# Altium footprint library micro sim-6.PcbLib: 1 footprints
Each footprint in its own frame and in the unit in brackets; x right, y up, seen from the top. Pads: shape width x height; smd on the part's side, far side on the other; paste and mask are expansions set on the pad; w line width, h text height; cw(c..) or ccw(c..) is an arc to the next point about the centre after c.
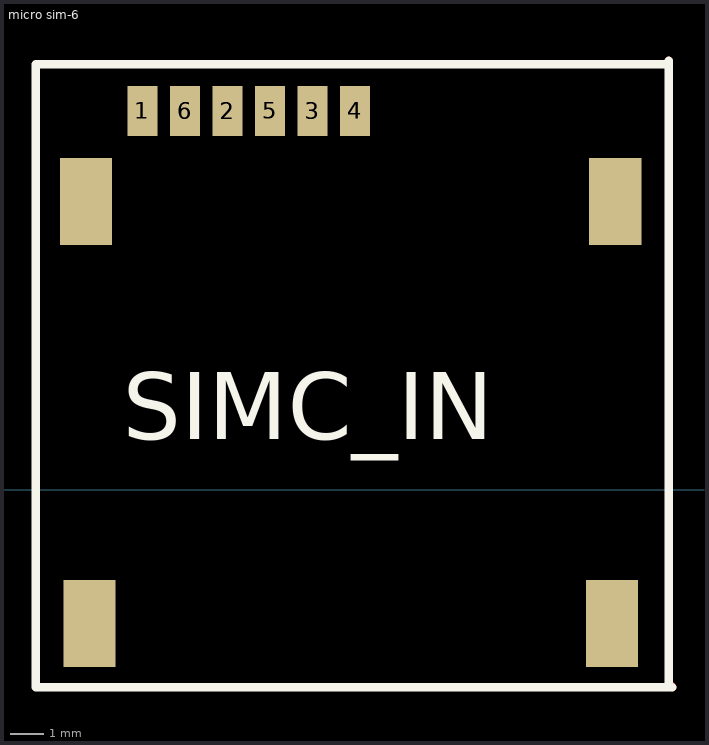
[diagram p0: the footprint, top view; thin cyan lines are the x and y axes]

## micro sim-6 [mm]
pads (16):
  rect 0.9x1.5 smd: 1(6.985,11.303) 2(9.525,11.303) 3(12.065,11.303) 4(13.335,11.303) 5(10.795,11.303) 6(8.255,11.303)
  rect 0.9x1.34 smd: 1(6.985,11.303) 2(9.525,11.303) 3(12.065,11.303) 4(13.335,11.303) 5(10.795,11.303) 6(8.255,11.303)
  rect 1.56x2.61 smd: ""(5.3,8.6) ""(5.4,-4) ""(21,-4) ""(21.1,8.6)
Top Layer:
  lines w0.254: 22.6,12.7 22.7,12.8 ; 22.7,-5.8 22.8,-5.9
Top Overlay:
  lines w0.254: 22.6,12.7 3.8,12.7 3.8,-5.9 22.8,-5.9 ; 22.7,-5.8 22.7,12.8
  text "SIMC_IN" at 6.4,1.5 h2